# EAGLE library part 4POS_SPDT_DIP (library Mine)
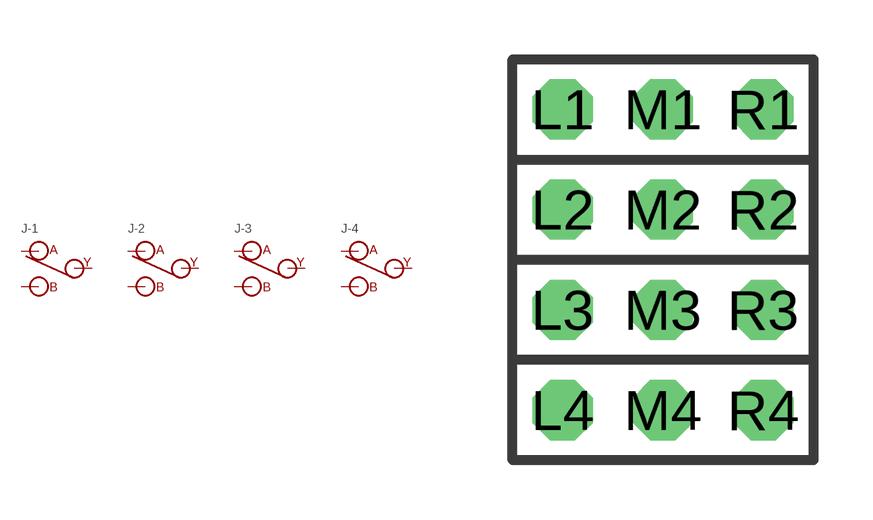
[diagram p9: symbol with the pads of 4X3_JUMP; footprint 4X3_JUMP]

Designator prefix J; gates -1=2:1_MUX -2=2:1_MUX -3=2:1_MUX -4=2:1_MUX

## 4POS_SPDT_DIP  [4X3_JUMP]
L1  -1:A
L2  -2:A
L3  -3:A
L4  -4:A
M1  -1:Y
M2  -2:Y
M3  -3:Y
M4  -4:Y
R1  -1:B
R2  -2:B
R3  -3:B
R4  -4:B

## Footprint 4X3_JUMP (pad centres in mm)
drill 0.8 pad 1.524 octagon: L1 -2.54,3.81; L2 -2.54,1.27; L3 -2.54,-1.27; L4 -2.54,-3.81; M1 0,3.81; M2 0,1.27; M3 0,-1.27; M4 0,-3.81; R1 2.54,3.81; R2 2.54,1.27; R3 2.54,-1.27; R4 2.54,-3.81